# Altium footprint library Connectors.PcbLib: 147 footprints (part 1 of 10)
Each footprint in its own frame and in the unit in brackets; x right, y up, seen from the top. Pads: shape width x height; smd on the part's side, far side on the other; paste and mask are expansions set on the pad; w line width, h text height; cw(c..) or ccw(c..) is an arc to the next point about the centre after c.
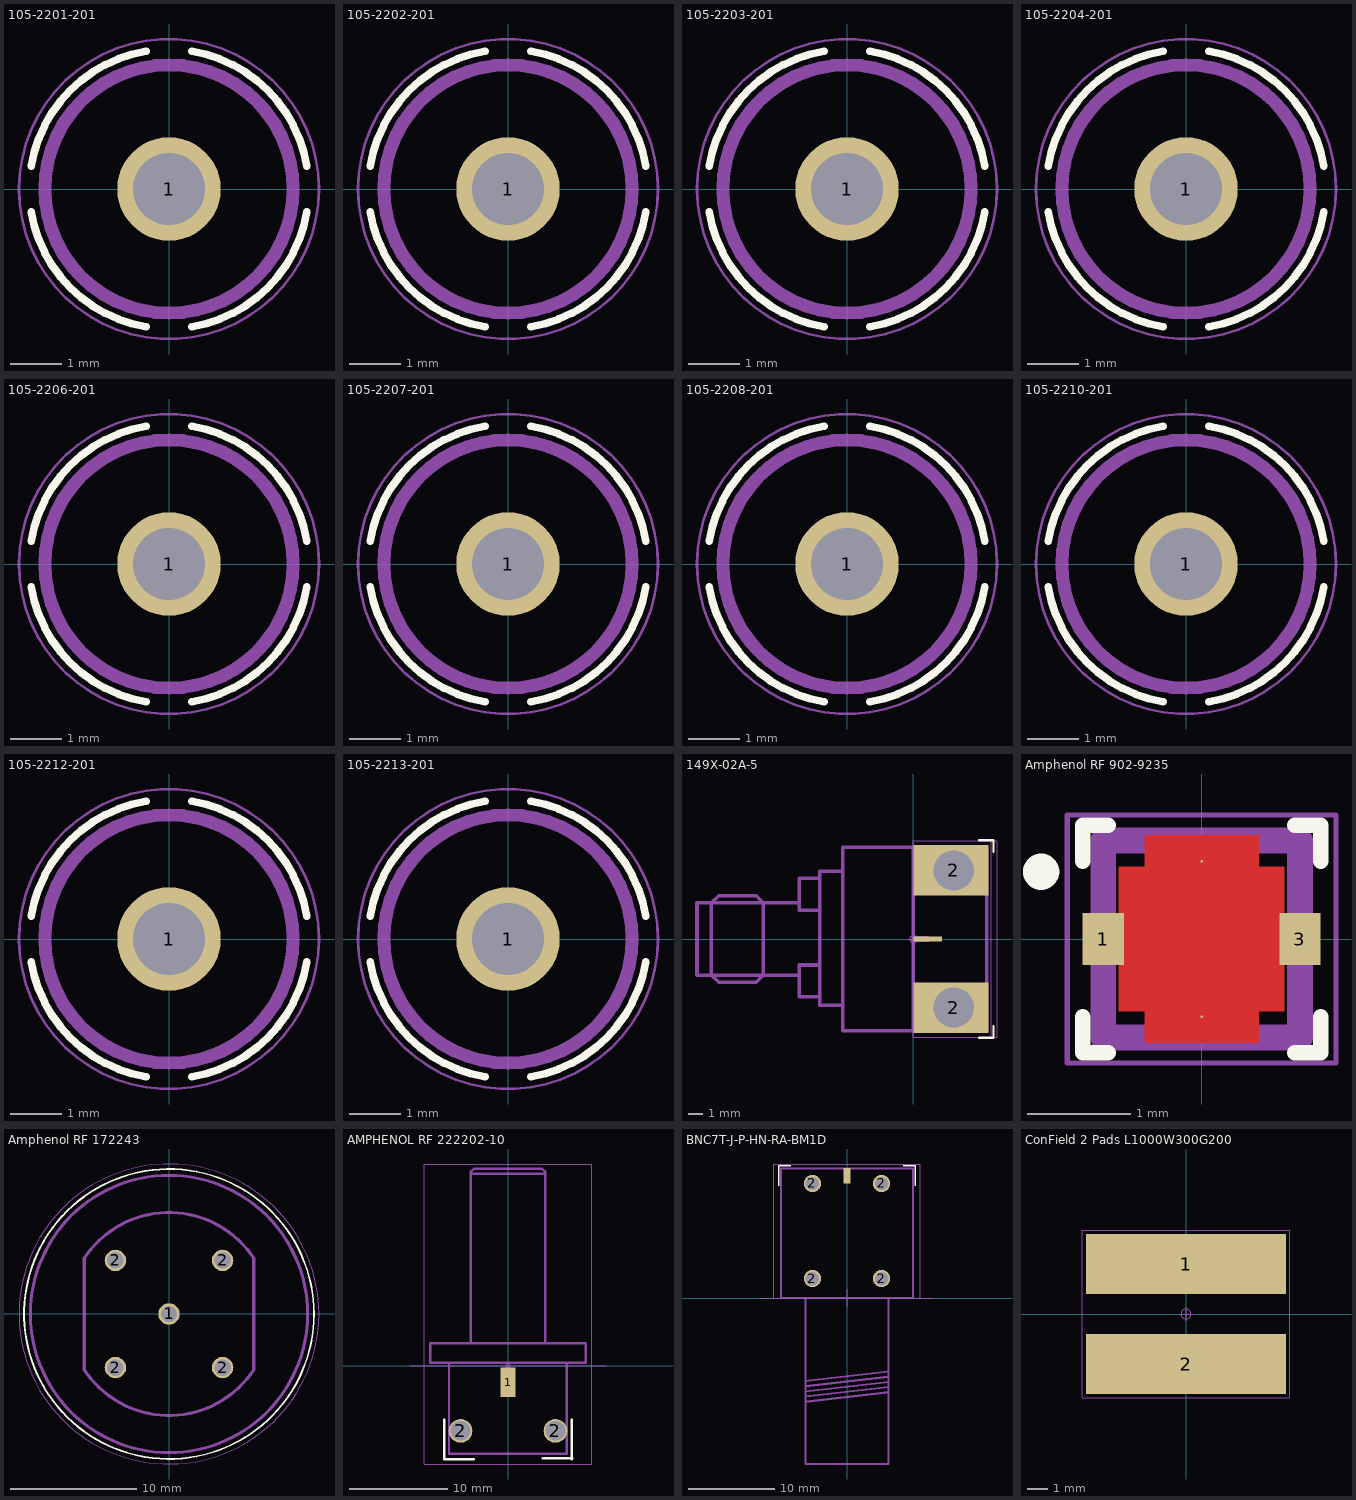
[diagram p0: the footprints below, top view; thin cyan lines are the x and y axes]

## 105-2201-201 [mm] "Vertical Test Jack Insulated Formed Contact, For Standard Tip Plug 2.00Dia, Color - white"
height 8
pads (1):
  round 2 hole 1.4: 1(0,0)
Top Overlay:
  lines w0.15: -2.663,-0.444 ccw(c0,0) -0.444,-2.663 ; -2.663,0.444 cw(c0,0) -0.444,2.663 ; 0.444,-2.663 ccw(c0,0) 2.663,-0.444 ; 0.444,2.663 cw(c0,0) 2.663,0.444
Top Assembly:
  circle w0.25: c0,0 r2.4
  text ".Designator" at -5.637,-0.566 h2.5
Top Courtyard:
  circle w0.05: c0,0 r0.25
  circle w0.05: c0,0 r2.9
  lines w0.05: -0.35,0 0.35,0 ; 0,-0.35 0,0.35
3D body "105-2201-201_white.STEP": height 7.95, standoff -3.18, extent -2.388,-2.388 2.388,2.388

## 105-2202-201 [mm] "Vertical Test Jack Insulated Formed Contact, For Standard Tip Plug 2.00Dia, Color - red"
height 8
pads (1):
  round 2 hole 1.4: 1(0,0)
Top Overlay:
  lines w0.15: -2.663,-0.444 ccw(c0,0) -0.444,-2.663 ; -2.663,0.444 cw(c0,0) -0.444,2.663 ; 0.444,-2.663 ccw(c0,0) 2.663,-0.444 ; 0.444,2.663 cw(c0,0) 2.663,0.444
Top Assembly:
  circle w0.25: c0,0 r2.4
  text ".Designator" at -5.637,-0.566 h2.5
Top Courtyard:
  circle w0.05: c0,0 r2.9
  circle w0.05: c0,0 r0.25
  lines w0.05: -0.35,0 0.35,0 ; 0,-0.35 0,0.35
3D body "105-2202-201_red.STEP": height 7.95, standoff -3.18, extent -2.388,-2.388 2.388,2.388

## 105-2203-201 [mm] "Vertical Test Jack Insulated Formed Contact, For Standard Tip Plug 2.00Dia, Color - black"
height 8
pads (1):
  round 2 hole 1.4: 1(0,0)
Top Overlay:
  lines w0.15: -2.663,-0.444 ccw(c0,0) -0.444,-2.663 ; -2.663,0.444 cw(c0,0) -0.444,2.663 ; 0.444,-2.663 ccw(c0,0) 2.663,-0.444 ; 0.444,2.663 cw(c0,0) 2.663,0.444
Top Assembly:
  circle w0.25: c0,0 r2.4
  text ".Designator" at -5.637,-0.566 h2.5
Top Courtyard:
  circle w0.05: c0,0 r2.9
  circle w0.05: c0,0 r0.25
  lines w0.05: -0.35,0 0.35,0 ; 0,-0.35 0,0.35
3D body "105-2203-201_black.STEP": height 7.95, standoff -3.18, extent -2.388,-2.388 2.388,2.388

## 105-2204-201 [mm] "Vertical Test Jack Insulated Formed Contact, For Standard Tip Plug 2.00Dia, Color - green"
height 8
pads (1):
  round 2 hole 1.4: 1(0,0)
Top Overlay:
  lines w0.15: -2.663,-0.444 ccw(c0,0) -0.444,-2.663 ; -2.663,0.444 cw(c0,0) -0.444,2.663 ; 0.444,-2.663 ccw(c0,0) 2.663,-0.444 ; 0.444,2.663 cw(c0,0) 2.663,0.444
Top Assembly:
  circle w0.25: c0,0 r2.4
  text ".Designator" at -5.637,-0.566 h2.5
Top Courtyard:
  circle w0.05: c0,0 r2.9
  circle w0.05: c0,0 r0.25
  lines w0.05: -0.35,0 0.35,0 ; 0,-0.35 0,0.35
3D body "105-2204-201_green.STEP": height 7.95, standoff -3.18, extent -2.388,-2.388 2.388,2.388

## 105-2206-201 [mm] "Vertical Test Jack Insulated Formed Contact, For Standard Tip Plug 2.00Dia, Color - orange"
height 8
pads (1):
  round 2 hole 1.4: 1(0,0)
Top Overlay:
  lines w0.15: -2.663,-0.444 ccw(c0,0) -0.444,-2.663 ; -2.663,0.444 cw(c0,0) -0.444,2.663 ; 0.444,-2.663 ccw(c0,0) 2.663,-0.444 ; 0.444,2.663 cw(c0,0) 2.663,0.444
Top Assembly:
  circle w0.25: c0,0 r2.4
  text ".Designator" at -5.637,-0.566 h2.5
Top Courtyard:
  circle w0.05: c0,0 r2.9
  circle w0.05: c0,0 r0.25
  lines w0.05: -0.35,0 0.35,0 ; 0,-0.35 0,0.35
3D body "105-2206-201_orange.STEP": height 7.95, standoff -3.18, extent -2.388,-2.388 2.388,2.388

## 105-2207-201 [mm] "Vertical Test Jack Insulated Formed Contact, For Standard Tip Plug 2.00Dia, Color - yellow"
height 8
pads (1):
  round 2 hole 1.4: 1(0,0)
Top Overlay:
  lines w0.15: -2.663,-0.444 ccw(c0,0) -0.444,-2.663 ; -2.663,0.444 cw(c0,0) -0.444,2.663 ; 0.444,-2.663 ccw(c0,0) 2.663,-0.444 ; 0.444,2.663 cw(c0,0) 2.663,0.444
Top Assembly:
  circle w0.25: c0,0 r2.4
  text ".Designator" at -5.637,-0.566 h2.5
Top Courtyard:
  circle w0.05: c0,0 r0.25
  circle w0.05: c0,0 r2.9
  lines w0.05: -0.35,0 0.35,0 ; 0,-0.35 0,0.35
3D body "105-2207-201_yellow.STEP": height 7.95, standoff -3.18, extent -2.388,-2.388 2.388,2.388

## 105-2208-201 [mm] "Vertical Test Jack Insulated Formed Contact, For Standard Tip Plug 2.00Dia, Color - brown"
height 8
pads (1):
  round 2 hole 1.4: 1(0,0)
Top Overlay:
  lines w0.15: -2.663,-0.444 ccw(c0,0) -0.444,-2.663 ; -2.663,0.444 cw(c0,0) -0.444,2.663 ; 0.444,-2.663 ccw(c0,0) 2.663,-0.444 ; 0.444,2.663 cw(c0,0) 2.663,0.444
Top Assembly:
  circle w0.25: c0,0 r2.4
  text ".Designator" at -5.637,-0.566 h2.5
Top Courtyard:
  circle w0.05: c0,0 r0.25
  circle w0.05: c0,0 r2.9
  lines w0.05: -0.35,0 0.35,0 ; 0,-0.35 0,0.35
3D body "105-2208-201_brown.STEP": height 7.95, standoff -3.18, extent -2.388,-2.388 2.388,2.388

## 105-2210-201 [mm] "Vertical Test Jack Insulated Formed Contact, For Standard Tip Plug 2.00Dia, Color - blue"
height 8
pads (1):
  round 2 hole 1.4: 1(0,0)
Top Overlay:
  lines w0.15: -2.663,-0.444 ccw(c0,0) -0.444,-2.663 ; -2.663,0.444 cw(c0,0) -0.444,2.663 ; 0.444,-2.663 ccw(c0,0) 2.663,-0.444 ; 0.444,2.663 cw(c0,0) 2.663,0.444
Top Assembly:
  circle w0.25: c0,0 r2.4
  text ".Designator" at -5.637,-0.566 h2.5
Top Courtyard:
  circle w0.05: c0,0 r0.25
  circle w0.05: c0,0 r2.9
  lines w0.05: -0.35,0 0.35,0 ; 0,-0.35 0,0.35
3D body "105-2210-201_blue.STEP": height 7.95, standoff -3.18, extent -2.388,-2.388 2.388,2.388

## 105-2212-201 [mm] "Vertical Test Jack Insulated Formed Contact, For Standard Tip Plug 2.00Dia, Color - violet"
height 8
pads (1):
  round 2 hole 1.4: 1(0,0)
Top Overlay:
  lines w0.15: -2.663,-0.444 ccw(c0,0) -0.444,-2.663 ; -2.663,0.444 cw(c0,0) -0.444,2.663 ; 0.444,-2.663 ccw(c0,0) 2.663,-0.444 ; 0.444,2.663 cw(c0,0) 2.663,0.444
Top Assembly:
  circle w0.25: c0,0 r2.4
  text ".Designator" at -5.637,-0.566 h2.5
Top Courtyard:
  circle w0.05: c0,0 r0.25
  circle w0.05: c0,0 r2.9
  lines w0.05: -0.35,0 0.35,0 ; 0,-0.35 0,0.35
3D body "105-2212-201_violet.STEP": height 7.95, standoff -3.18, extent -2.388,-2.388 2.388,2.388

## 105-2213-201 [mm] "Vertical Test Jack Insulated Formed Contact, For Standard Tip Plug 2.00Dia, Color - gray"
height 8
pads (1):
  round 2 hole 1.4: 1(0,0)
Top Overlay:
  lines w0.15: -2.663,-0.444 ccw(c0,0) -0.444,-2.663 ; -2.663,0.444 cw(c0,0) -0.444,2.663 ; 0.444,-2.663 ccw(c0,0) 2.663,-0.444 ; 0.444,2.663 cw(c0,0) 2.663,0.444
Top Assembly:
  circle w0.25: c0,0 r2.4
  text ".Designator" at -5.637,-0.566 h2.5
Top Courtyard:
  circle w0.05: c0,0 r2.9
  circle w0.05: c0,0 r0.25
  lines w0.05: -0.35,0 0.35,0 ; 0,-0.35 0,0.35
3D body "105-2213-201_gray.STEP": height 7.95, standoff -3.18, extent -2.388,-2.388 2.388,2.388

## 149X-02A-5 [mm] "South-West End Launch Connector - Standard Profile 2.4mm"
pads (3):
  rect 2x0.35 smd paste-1 mask+0: 1(1,0)
  rect 5.2x3.5 hole 2.8 copper offset -0.2,0 paste-2539.97 mask+0: 2(2.8,-4.75) 2(2.8,4.75)
Top Overlay:
  lines w0.15: 4.55,-6.85 5.55,-6.85 5.55,-6.05 ; 4.55,6.85 5.55,6.85 5.55,6.05
Bottom Overlay:
  lines w0.15: 4.55,-6.85 5.55,-6.85 5.55,-6.05 ; 4.55,6.85 5.55,6.85 5.55,6.05
Top Solder:
  rectangle: 0,2.9 5.3,6.6
  rectangle: 0,-6.6 5.3,-2.9
Bottom Solder:
  rectangle: 0,-6.6 5.3,6.6
Top Assembly:
  lines w0.25: -7.9,-2.5 -15,-2.5 -15,2.5 -7.9,2.5 ; -6.6,-4 -7.9,-4 -7.9,-1.8 -6.6,-1.8 ; -6.5,2 -7.9,2 -7.9,4.2 -6.5,4.2 ; -4.94,-4.6 -6.5,-4.6 -6.5,4.7 -4.94,4.7 ; -4.9,6.35 -4.9,-6.35 0,-6.35 ; 0,-0.1 1,-0.1 1,0.1 0,0.1 ; 5.08,-6.35 0,-6.35 ; 5.08,-6.25 5.08,-3.175 0,-3.175 ; 0,-6.35 0,-3.175 ; 0,-3.175 0,3.175 ; 0,3.175 0,6.35 5.08,6.35 5.08,3.175 0,3.175 ; -14,-2.5 -14,2.5 -13.5,3 -10.9,3 -10.4,2.5 -10.4,-2.5 -10.9,-3 -13.5,-3 -14,-2.5
  lines w0.254: -4.9,6.35 0,6.35
  text ".Designator" at 1.675,-0.425 h1.2
Bottom Assembly:
  lines w0.25: -7.9,-2.5 -15,-2.5 -15,2.5 -7.9,2.5 ; -6.6,-4 -7.9,-4 -7.9,-1.8 -6.6,-1.8 ; -6.5,2 -7.9,2 -7.9,4.2 -6.5,4.2 ; -4.94,-4.6 -6.5,-4.6 -6.5,4.7 -4.94,4.7 ; -4.9,6.35 -4.9,-6.35 0,-6.35 ; 0,-6.35 0,-3.175 0,3.175 0,6.35 5.08,6.35 5.08,-6.35 0,-6.35 ; -14,-2.5 -14,2.5 -13.5,3 -10.9,3 -10.4,2.5 -10.4,-2.5 -10.9,-3 -13.5,-3 -14,-2.5
  lines w0.254: -4.9,6.35 0,6.35
Top Courtyard:
  circle w0.05: c0,0 r0.25
  lines w0.05: -0.35,0 0.35,0 ; 0,-6.8 0,6.8 5.4,6.8 5.4,-6.8 0,-6.8
Bottom Courtyard:
  lines w0.05: 0,-6.8 5.8,-6.8 5.8,6.8 0,6.8 0,-6.8
3D body "1492-02A-5.STEP": height 7.16, standoff -4.66, extent -15.145,-6.667 5.662,6.667

## Amphenol RF 902-9235 [mm] "RF Switch Straight PCB Jack Surface Mount 50 Ohm"
height 1.05
pads (4):
  rect 0.4x0.5 smd: 1(-0.95,0) 3(0.95,0)
  round 0.025 smd: 2(0,-0.75) 4(0,0.75)
Top Layer:
  pour cut-out: 0.8,0.7 0.8,-0.7 -0.8,-0.7 -0.8,0.7
  region: 0.55,1 -0.55,1 -0.55,0.68 -0.32,0.45 0.32,0.45 0.55,0.68
  region: -0.55,-1 0.55,-1 0.55,-0.68 0.32,-0.45 -0.32,-0.45 -0.55,-0.68
Top Overlay:
  circle w0.25: c-1.55,0.65 r0.05
  lines w0.15: -1.15,-0.75 -1.15,-1.1 -0.9,-1.1 ; -1.15,0.75 -1.15,1.1 -0.9,1.1 ; 0.9,-1.1 1.15,-1.1 1.15,-0.75 ; 0.9,1.1 1.15,1.1 1.15,0.75
Top Assembly:
  circle w0.25: c-0.525,0 r0.202
  lines w0.25: -0.95,-0.95 0.95,-0.95 0.95,0.95 -0.95,0.95 -0.95,-0.95
  text ".Designator" at -2.953,1.586 h1.5
Top Courtyard:
  circle w0.05: c0,0 r0.25
  lines w0.05: -0.35,0 0.35,0 ; 0,-0.35 0,0.35 ; -1.298,-1.198 1.298,-1.198 1.298,1.198 -1.298,1.198 -1.298,-1.198
3D body "902-9235_colors.STEP": height 0.94, standoff 0.01, extent -1.05,-1 1.05,1

## Amphenol RF 172243 [mm] "N-Type PCB Through Hole Straight Jack Bulkhead 50 Ohm"
height 24
pads (5):
  round 1.7 hole 1.3: 1(0,0) 2(-4.25,-4.25) 2(-4.25,4.25) 2(4.25,-4.25) 2(4.25,4.25)
Top Overlay:
  circle w0.15: c0,0 r11.5
Top Assembly:
  circle w0.25: c0,0 r11
  lines w0.25: -6.725,-4.425 ccw(c0,0) 6.725,-4.425 6.725,4.425 ccw(c0,0) -6.725,4.425 -6.725,-4.425
Top Courtyard:
  circle w0.05: c0,0 r11.9
  circle w0.05: c0,0 r0.25
  lines w0.05: -0.35,0 0.35,0 ; 0,-0.35 0,0.35
3D body "172243_colors.STEP": height 33.18, standoff -4.77, extent -11.039,-11.1 11.039,11.1

## AMPHENOL RF 222202-10 [mm] "F-Type Straight PCB Jack End Launch Bulkhead Rear Mount 75 Ohm"
height 8
pads (3):
  rect 1.5x3 smd: 1(0,-1.68)
  round 2.4 hole 2: 2(-4.825,-6.63) 2(4.825,-6.63)
Top Overlay:
  lines w0.25: -6.5,-5.5 -6.5,-9.5 -3.5,-9.5 ; 3.55,-9.4 6.55,-9.4 ; 6.5,-9.5 6.5,-5.5
Top Assembly:
  lines w0.25: -3.8,19.521 -3.8,19.671 -3.45,20.021 3.45,20.021 3.8,19.671 3.8,19.521 ; 3.8,19.521 3.8,19.521 ; -7.9,0.29 -7.9,2.29 7.9,2.29 7.9,0.29 -7.9,0.29 ; -6,-8.939 -6,0.29 5.97,0.29 5.97,-8.939 -6,-8.939 ; -3.798,2.292 3.798,2.292 3.798,19.519 -3.798,19.519 -3.798,2.292
  text ".Designator" at -3.378,-2.019 h1.5
Board:
  lines w0.1: -10,0 10,0
Top Courtyard:
  circle w0.05: c0,0 r0.25
  lines w0.05: -0.35,0 0.35,0 ; 0,-0.35 0,0.35 ; -8.5,-10 -8.5,20.5 8.5,20.5 8.5,-10 -8.5,-10
3D body "222202-10_colors.STEP": height 7.9, standoff -7.86, extent -7.875,-8.939 7.875,20.051

## BNC7T-J-P-HN-RA-BM1D [mm] "Samtek 75 Ohm BNC Low Profile, Mixed Technology Die Cast Bulkhead Jack"
height 16
pads (5):
  rect 0.76x1.83 smd: 1(0,14.15)
  round 2 hole 1.55: 2(-4,2.25) 2(-4,13.25) 2(4,2.25) 2(4,13.25)
Top Overlay:
  lines w0.15: -7.9,13 -7.9,15.3 -6.5,15.3 ; 6.5,15.3 7.9,15.3 7.9,13
Top Assembly:
  lines w0.25: -4.8,-12 4.8,-10.9 ; -4.8,-11.4 4.8,-10.3 ; -4.8,-10.8 4.8,-9.7 ; -4.8,-10.2 4.8,-9.1 ; -4.8,-9.6 4.8,-8.5 ; -7.648,0.002 7.648,0.002 7.648,14.998 -7.648,14.998 -7.648,0.002 ; -4.8,-19.2 -4.8,0 4.8,0 4.8,-19.2 -4.8,-19.2
  text ".Designator" at -3,7.682 h1.5
Top Courtyard:
  lines w0.05: -10,0 10,0 ; 0,-1 0,1 ; -8.5,0 -8.5,15.5 8.5,15.5 8.5,0 -8.5,0
3D body "BNC7T-J-P-HN-RA-BM1D.stp": height 13.8, standoff -2.25, extent -9.238,-19.45 9.238,14.75

## ConField 2 Pads L1000W300G200 [mm] "Contact Field 2 Pads 10mm x 3 mm gap 2 mm"
pads (2):
  rect 10x3 smd paste-2539.97: 1(0,2.5) 2(0,-2.5)
Top Overlay:
  text ".Net1" at 5.5,2 h1.5
  text ".Net2" at 5.5,-3 h1.5
Top Courtyard:
  circle w0.05: c0,0 r0.25
  lines w0.05: -0.35,0 0.35,0 ; 0,-0.35 0,0.35 ; -5.2,-4.2 -5.2,4.2 5.2,4.2 5.2,-4.2 -5.2,-4.2